# EAGLE library part POLOLU-AMIS-30543-PINHEADERS (library Pololu-AMIS-30543)
This variant contains the 0.1" pin headers and mounting holes. No terminal block connectors. Pololu AMIS-30543 Stepper Driver Carrier . Product Page : https://www.pololu.com/product/2970 . AMIS 30543 Datasheet https://www.pololu.com/file/download/AMIS-30543-D.pdf?file_id=0J869
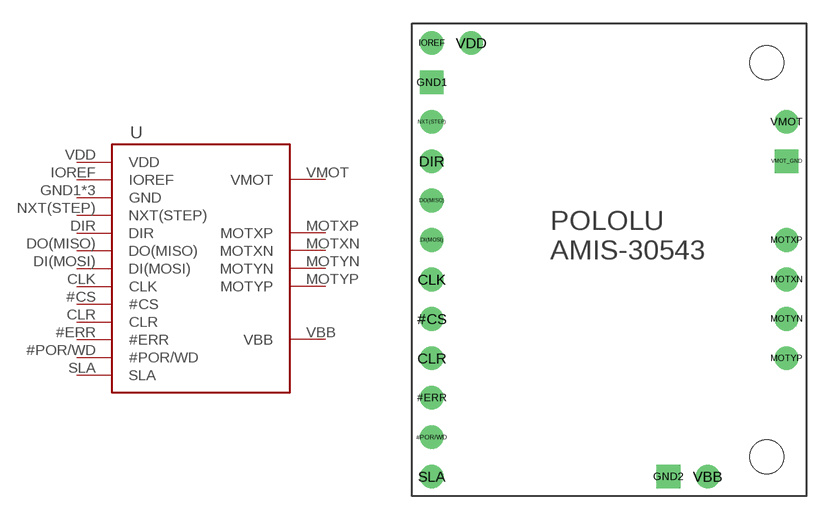
[diagram p1: symbol with the pads of POLOLU-AMIS-30543-PINHEADERS; footprint POLOLU-AMIS-30543-PINHEADERS]

Designator prefix -

## POLOLU-AMIS-30543-PINHEADERS  [POLOLU-AMIS-30543-PINHEADERS]
#CS  #CS
#ERR  #ERR
#POR/WD  #POR/WD
CLK  CLK
CLR  CLR
DI(MOSI)  DI(MOSI)
DIR  DIR
DO(MISO)  DO(MISO)
GND1  GND
GND2  GND
IOREF  IOREF
MOTXN  MOTXN
MOTXP  MOTXP
MOTYN  MOTYN
MOTYP  MOTYP
NXT(STEP)  NXT(STEP)
SLA  SLA
VBB  VBB
VDD  VDD
VMOT  VMOT
VMOT_GND  GND

## Footprint POLOLU-AMIS-30543-PINHEADERS (pad centres in mm)
This variant contains only the 0.1" pin headers. No terminal blocks . Pololu AMIS-30543 Stepper Driver Carrier . Product Page : https://www.pololu.com/product/2970 . AMIS 30543 Datasheet https://www.pololu.com/file/download/AMIS-30543-D.pdf?file_id=0J869
drill 1.016: #CS -11.43,-3.81; #ERR -11.43,-8.89; #POR/WD -11.43,-11.43; CLK -11.43,-1.27; CLR -11.43,-6.35; DI(MOSI) -11.43,1.27; DIR -11.43,6.35; DO(MISO) -11.43,3.81; IOREF -11.43,13.97; MOTXN 11.43,-1.27; MOTXP 11.43,1.27; MOTYN 11.43,-3.81; MOTYP 11.43,-6.35; NXT(STEP) -11.43,8.89; SLA -11.43,-13.97; VBB 6.35,-13.97; VDD -8.89,13.97; VMOT 11.43,8.89
drill 1.016 square: GND1 -11.43,11.43; GND2 3.81,-13.97; VMOT_GND 11.43,6.35
hole 2.184 at 10.16,12.7
hole 2.184 at 10.16,-12.7